# Altium integrated library NSC Interface.IntLib: 1288 symbols (part 34 of 45)
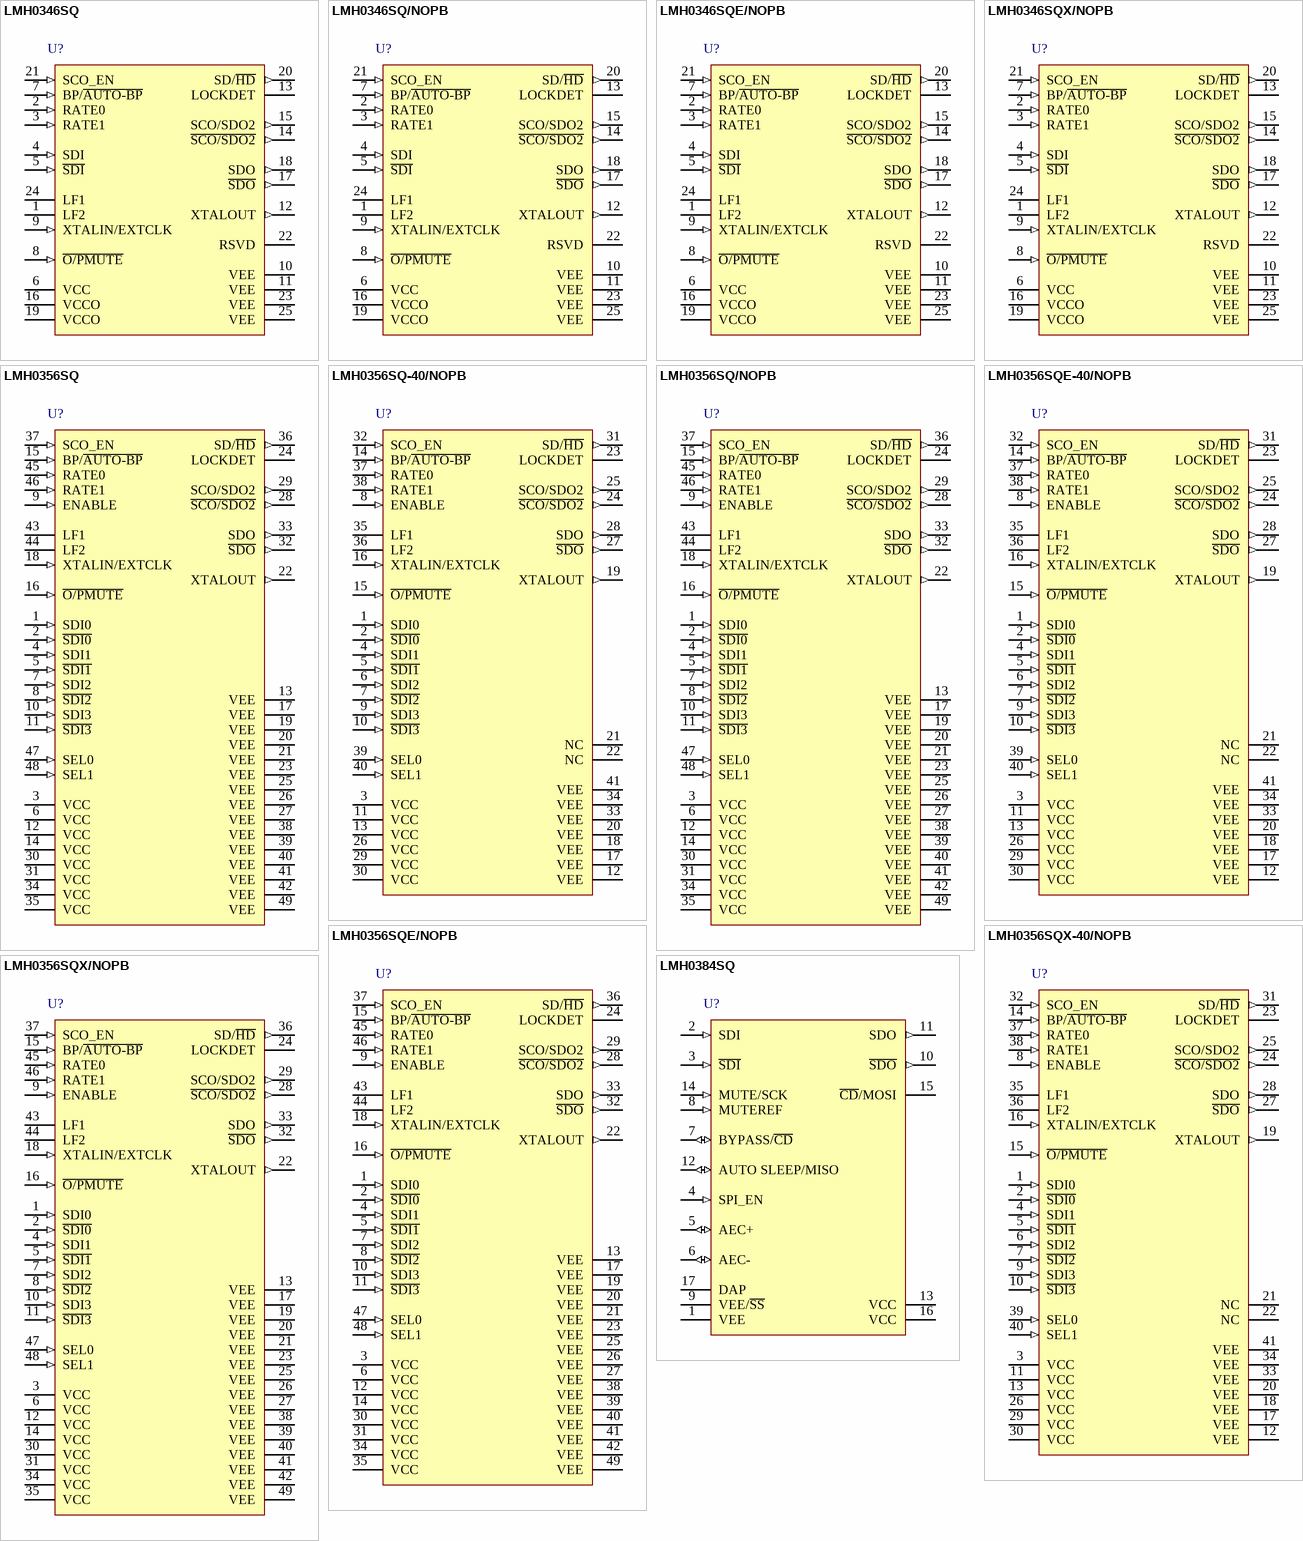
[diagram p145: symbols LMH0346SQ to LMH0384SQ]

## LMH0346SQ
designator U?
3 Gbps HD/SD SDI Reclocker with Dual Differential Outputs, 24-pin LLP; PartNumber: LMH0346SQ; Manufacturer: National Semiconductor; PackageTopMarking: NS*UZXYTT*L0346SQ; PowerWise: N; CompType: Interface IC; Published: 4-Dec-2008; DatasheetVersion: Nov-2009; PackageVersion: revA, Oct-2003; PackageReference: SQA24B; Publisher: Altium Limited; PackageDescription: LLP, Plastic, Quad, 5 x 4 x 0.8mm Body, 24 Lead, 0.5mm Pitch, No Pullback; RoHS: Y; PinCount: 24; Code_JEDEC: MO-220-WGHD-1; ComponentLink1Description: LMH0346 Datasheet; ComponentLink1URL: http://www.national.com/ds/LM/LMH0346.pdf; ComponentLink2Description: LMH0346 Web Page; ComponentLink2URL: http://www.national.com/pf/LM/LMH0346.html; ComponentLink3Description: SQA24B Package Page; ComponentLink3URL: http://www.national.com/packaging/folders/sqa24b.html
footprint SQA24B (QFN, 24-Leads, Body 5x4mm, Pitch 0.5mm, NSC Recommended)
pins: 1 LF2, 2 RATE0 (in), 3 RATE1 (in), 4 SDI (in), 5 ~{SDI} (in), 6 VCC (power), 7 BP/~{AUTO-BP} (in), 8 ~{O/PMUTE} (in), 9 XTALIN/EXTCLK (in), 10 VEE (power), 11 VEE (power), 12 XTALOUT (out), 13 LOCKDET, 14 ~{SCO/SDO2} (out), 15 SCO/SDO2 (out), 16 VCCO (power), 17 ~{SDO} (out), 18 SDO (out), 19 VCCO (power), 20 SD/~{HD} (out), 21 SCO_EN (in), 22 RSVD, 23 VEE (power), 24 LF1, 25 VEE (power)

## LMH0346SQ/NOPB
designator U?
3 Gbps HD/SD SDI Reclocker with Dual Differential Outputs, 24-pin LLP, Pb-Free; PartNumber: LMH0346SQ/NOPB; Manufacturer: National Semiconductor; PackageTopMarking: NS*UZXYTT*L0346SQ; PowerWise: N; CompType: Interface IC; Published: 1-Mar-2010; DatasheetVersion: Nov-2009; PackageVersion: revA, Oct-2003; PackageReference: SQA24B; Publisher: Altium Limited; PackageDescription: LLP, Plastic, Quad, 5 x 4 x 0.8mm Body, 24 Lead, 0.5mm Pitch, No Pullback; Supplier 1: Digi-Key; Supplier Part Number 1: LMH0346SQ-ND; RoHS: Y; PinCount: 24; Code_JEDEC: MO-220-WGHD-1; ComponentLink1Description: LMH0346 Datasheet; ComponentLink1URL: http://www.national.com/ds/LM/LMH0346.pdf; ComponentLink2Description: LMH0346 Web Page; ComponentLink2URL: http://www.national.com/pf/LM/LMH0346.html; ComponentLink3Description: SQA24B Package Page; ComponentLink3URL: http://www.national.com/packaging/folders/sqa24b.html
footprint SQA24B (QFN, 24-Leads, Body 5x4mm, Pitch 0.5mm, NSC Recommended)
pins: 1 LF2, 2 RATE0 (in), 3 RATE1 (in), 4 SDI (in), 5 ~{SDI} (in), 6 VCC (power), 7 BP/~{AUTO-BP} (in), 8 ~{O/PMUTE} (in), 9 XTALIN/EXTCLK (in), 10 VEE (power), 11 VEE (power), 12 XTALOUT (out), 13 LOCKDET, 14 ~{SCO/SDO2} (out), 15 SCO/SDO2 (out), 16 VCCO (power), 17 ~{SDO} (out), 18 SDO (out), 19 VCCO (power), 20 SD/~{HD} (out), 21 SCO_EN (in), 22 RSVD, 23 VEE (power), 24 LF1, 25 VEE (power)

## LMH0346SQE/NOPB
designator U?
3 Gbps HD/SD SDI Reclocker with Dual Differential Outputs, 24-pin LLP, Pb-Free; PartNumber: LMH0346SQE/NOPB; Manufacturer: National Semiconductor; PackageTopMarking: NS*UZXYTT*L0346SQ; PowerWise: N; CompType: Interface IC; Published: 1-Mar-2010; DatasheetVersion: Nov-2009; PackageVersion: revA, Oct-2003; PackageReference: SQA24B; Publisher: Altium Limited; PackageDescription: LLP, Plastic, Quad, 5 x 4 x 0.8mm Body, 24 Lead, 0.5mm Pitch, No Pullback; Supplier 1: Digi-Key; Supplier Part Number 1: LMH0346SQE/NOPBTR-ND; Supplier 2: Digi-Key; Supplier Part Number 2: LMH0346SQE/NOPBCT-ND; Supplier 3: Digi-Key; Supplier Part Number 3: LMH0346SQE/NOPBDKR-ND; Supplier 4: Farnell; Supplier Part Number 4: 1685412; RoHS: Y; PinCount: 24; Code_JEDEC: MO-220-WGHD-1; ComponentLink1Description: LMH0346 Datasheet; ComponentLink1URL: http://www.national.com/ds/LM/LMH0346.pdf; ComponentLink2Description: LMH0346 Web Page; ComponentLink2URL: http://www.national.com/pf/LM/LMH0346.html; ComponentLink3Description: SQA24B Package Page; ComponentLink3URL: http://www.national.com/packaging/folders/sqa24b.html
footprint SQA24B (QFN, 24-Leads, Body 5x4mm, Pitch 0.5mm, NSC Recommended)
pins: 1 LF2, 2 RATE0 (in), 3 RATE1 (in), 4 SDI (in), 5 ~{SDI} (in), 6 VCC (power), 7 BP/~{AUTO-BP} (in), 8 ~{O/PMUTE} (in), 9 XTALIN/EXTCLK (in), 10 VEE (power), 11 VEE (power), 12 XTALOUT (out), 13 LOCKDET, 14 ~{SCO/SDO2} (out), 15 SCO/SDO2 (out), 16 VCCO (power), 17 ~{SDO} (out), 18 SDO (out), 19 VCCO (power), 20 SD/~{HD} (out), 21 SCO_EN (in), 22 RSVD, 23 VEE (power), 24 LF1, 25 VEE (power)

## LMH0346SQX/NOPB
designator U?
3 Gbps HD/SD SDI Reclocker with Dual Differential Outputs, 24-pin LLP, Pb-Free; PartNumber: LMH0346SQX/NOPB; Manufacturer: National Semiconductor; PackageTopMarking: NS*UZXYTT*L0346SQ; PowerWise: N; CompType: Interface IC; Published: 1-Mar-2010; DatasheetVersion: Nov-2009; PackageVersion: revA, Oct-2003; PackageReference: SQA24B; Publisher: Altium Limited; PackageDescription: LLP, Plastic, Quad, 5 x 4 x 0.8mm Body, 24 Lead, 0.5mm Pitch, No Pullback; Supplier 1: Digi-Key; Supplier Part Number 1: LMH0346SQX-ND; RoHS: Y; PinCount: 24; Code_JEDEC: MO-220-WGHD-1; ComponentLink1Description: LMH0346 Datasheet; ComponentLink1URL: http://www.national.com/ds/LM/LMH0346.pdf; ComponentLink2Description: LMH0346 Web Page; ComponentLink2URL: http://www.national.com/pf/LM/LMH0346.html; ComponentLink3Description: SQA24B Package Page; ComponentLink3URL: http://www.national.com/packaging/folders/sqa24b.html
footprint SQA24B (QFN, 24-Leads, Body 5x4mm, Pitch 0.5mm, NSC Recommended)
pins: 1 LF2, 2 RATE0 (in), 3 RATE1 (in), 4 SDI (in), 5 ~{SDI} (in), 6 VCC (power), 7 BP/~{AUTO-BP} (in), 8 ~{O/PMUTE} (in), 9 XTALIN/EXTCLK (in), 10 VEE (power), 11 VEE (power), 12 XTALOUT (out), 13 LOCKDET, 14 ~{SCO/SDO2} (out), 15 SCO/SDO2 (out), 16 VCCO (power), 17 ~{SDO} (out), 18 SDO (out), 19 VCCO (power), 20 SD/~{HD} (out), 21 SCO_EN (in), 22 RSVD, 23 VEE (power), 24 LF1, 25 VEE (power)

## LMH0356SQ
designator U?
3 Gbps HD/SD SDI Reclocker with 4:1 Input Mux and FR4 EQs, 48-pin LLP; PartNumber: LMH0356SQ; Manufacturer: National Semiconductor; PackageTopMarking: NS*UZXYTT*L0356; PowerWise: N; CompType: Interface IC; Published: 4-Dec-2008; LatestRevisionDate: 1-Mar-2010; LatestRevisionNote: Updated to datasheet version Nov-2009; DatasheetVersion: Nov-2009; PackageVersion: revB, May-2009; PackageReference: SQA48A; Publisher: Altium Limited; PackageDescription: LLP, Plastic, Quad, 7 x 7 x 0.8mm Body, 48 Lead, 0.5mm Pitch, No Pullback; RoHS: Y; PinCount: 48; Code_JEDEC: MO-220-WKKD-2; ComponentLink1Description: LMH0356 Datasheet; ComponentLink1URL: http://www.national.com/ds/LM/LMH0356.pdf; ComponentLink2Description: LMH0356 Web Page; ComponentLink2URL: http://www.national.com/pf/LM/LMH0356.html; ComponentLink3Description: SQA48A Package Page; ComponentLink3URL: http://www.national.com/packaging/folders/sqa48a.html
footprint SQA48A (QFN, 48-Leads, Body 7x7mm, Pitch 0.5mm, NSC Recommended)
pins: 1 SDI0 (in), 2 ~{SDI0} (in), 3 VCC (power), 4 SDI1 (in), 5 ~{SDI1} (in), 6 VCC (power), 7 SDI2 (in), 8 ~{SDI2} (in), 9 ENABLE (in), 10 SDI3 (in), 11 ~{SDI3} (in), 12 VCC (power), 13 VEE (power), 14 VCC (power), 15 BP/~{AUTO-BP} (in), 16 ~{O/PMUTE} (in), 17 VEE (power), 18 XTALIN/EXTCLK (in), 19 VEE (power), 20 VEE (power), 21 VEE (power), 22 XTALOUT (out), 23 VEE (power), 24 LOCKDET, 25 VEE (power), 26 VEE (power), 27 VEE (power), 28 ~{SCO/SDO2} (out), 29 SCO/SDO2 (out), 30 VCC (power), 31 VCC (power), 32 ~{SDO} (out), 33 SDO (out), 34 VCC (power), 35 VCC (power), 36 SD/~{HD} (out), 37 SCO_EN (in), 38 VEE (power), 39 VEE (power), 40 VEE (power), 41 VEE (power), 42 VEE (power), 43 LF1, 44 LF2, 45 RATE0 (in), 46 RATE1 (in), 47 SEL0 (in), 48 SEL1 (in), 49 VEE (power)

## LMH0356SQ-40/NOPB
designator U?
3 Gbps HD/SD SDI Reclocker with 4:1 Input Mux and FR4 EQs, 40-pin LLP, Pb-Free; PartNumber: LMH0356SQ-40/NOPB; Manufacturer: National Semiconductor; PackageTopMarking: NS*UZXYTT*L0356; PowerWise: N; CompType: Interface IC; Published: 1-Mar-2010; DatasheetVersion: Nov-2009; PackageVersion: revB, Jul-2004; PackageReference: SQF40A; Publisher: Altium Limited; PackageDescription: LLP, Quad, 5 x 5 x 0.8mm Body, 40 Lead, 0.4mm Pitch, 3.6 x 3.6mm Exposed Pad; Supplier 1: Digi-Key; Supplier Part Number 1: LMH0356SQ-40-ND; RoHS: Y; PinCount: 40; ComponentLink1Description: LMH0356 Datasheet; ComponentLink1URL: http://www.national.com/ds/LM/LMH0356.pdf; ComponentLink2Description: LMH0356 Web Page; ComponentLink2URL: http://www.national.com/pf/LM/LMH0356.html; ComponentLink3Description: SQF40A Package Page; ComponentLink3URL: http://www.national.com/packaging/folders/sqf40a.html
footprint SQF40A (QFN, 40-Leads, Body 5x5 mm, Pitch 0.4mm, NSC Recommended)
pins: 1 SDI0 (in), 2 ~{SDI0} (in), 3 VCC (power), 4 SDI1 (in), 5 ~{SDI1} (in), 6 SDI2 (in), 7 ~{SDI2} (in), 8 ENABLE (in), 9 SDI3 (in), 10 ~{SDI3} (in), 11 VCC (power), 12 VEE (power), 13 VCC (power), 14 BP/~{AUTO-BP} (in), 15 ~{O/PMUTE} (in), 16 XTALIN/EXTCLK (in), 17 VEE (power), 18 VEE (power), 19 XTALOUT (out), 20 VEE (power), 21 NC (power), 22 NC (power), 23 LOCKDET, 24 ~{SCO/SDO2} (out), 25 SCO/SDO2 (out), 26 VCC (power), 27 ~{SDO} (out), 28 SDO (out), 29 VCC (power), 30 VCC (power), 31 SD/~{HD} (out), 32 SCO_EN (in), 33 VEE (power), 34 VEE (power), 35 LF1, 36 LF2, 37 RATE0 (in), 38 RATE1 (in), 39 SEL0 (in), 40 SEL1 (in), 41 VEE (power)

## LMH0356SQ/NOPB
designator U?
3 Gbps HD/SD SDI Reclocker with 4:1 Input Mux and FR4 EQs, 48-pin LLP, Pb-Free; PartNumber: LMH0356SQ/NOPB; Manufacturer: National Semiconductor; PackageTopMarking: NS*UZXYTTE#*L0356; PowerWise: N; CompType: Interface IC; Published: 1-Mar-2010; LatestRevisionDate: 1-Mar-2010; LatestRevisionNote: Updated to datasheet version Nov-2009; DatasheetVersion: Nov-2009; PackageVersion: revB, May-2009; PackageReference: SQA48A; Publisher: Altium Limited; PackageDescription: LLP, Plastic, Quad, 7 x 7 x 0.8mm Body, 48 Lead, 0.5mm Pitch, No Pullback; Supplier 1: Digi-Key; Supplier Part Number 1: LMH0356SQ-ND; RoHS: Y; PinCount: 48; Code_JEDEC: MO-220-WKKD-2; ComponentLink1Description: LMH0356 Datasheet; ComponentLink1URL: http://www.national.com/ds/LM/LMH0356.pdf; ComponentLink2Description: LMH0356 Web Page; ComponentLink2URL: http://www.national.com/pf/LM/LMH0356.html; ComponentLink3Description: SQA48A Package Page; ComponentLink3URL: http://www.national.com/packaging/folders/sqa48a.html
footprint SQA48A (QFN, 48-Leads, Body 7x7mm, Pitch 0.5mm, NSC Recommended)
pins: 1 SDI0 (in), 2 ~{SDI0} (in), 3 VCC (power), 4 SDI1 (in), 5 ~{SDI1} (in), 6 VCC (power), 7 SDI2 (in), 8 ~{SDI2} (in), 9 ENABLE (in), 10 SDI3 (in), 11 ~{SDI3} (in), 12 VCC (power), 13 VEE (power), 14 VCC (power), 15 BP/~{AUTO-BP} (in), 16 ~{O/PMUTE} (in), 17 VEE (power), 18 XTALIN/EXTCLK (in), 19 VEE (power), 20 VEE (power), 21 VEE (power), 22 XTALOUT (out), 23 VEE (power), 24 LOCKDET, 25 VEE (power), 26 VEE (power), 27 VEE (power), 28 ~{SCO/SDO2} (out), 29 SCO/SDO2 (out), 30 VCC (power), 31 VCC (power), 32 ~{SDO} (out), 33 SDO (out), 34 VCC (power), 35 VCC (power), 36 SD/~{HD} (out), 37 SCO_EN (in), 38 VEE (power), 39 VEE (power), 40 VEE (power), 41 VEE (power), 42 VEE (power), 43 LF1, 44 LF2, 45 RATE0 (in), 46 RATE1 (in), 47 SEL0 (in), 48 SEL1 (in), 49 VEE (power)

## LMH0356SQE-40/NOPB
designator U?
3 Gbps HD/SD SDI Reclocker with 4:1 Input Mux and FR4 EQs, 40-pin LLP, Pb-Free; PartNumber: LMH0356SQE-40/NOPB; Manufacturer: National Semiconductor; PackageTopMarking: NS*UZXYTT*L0356; PowerWise: N; CompType: Interface IC; Published: 1-Mar-2010; DatasheetVersion: Nov-2009; PackageVersion: revB, Jul-2004; PackageReference: SQF40A; Publisher: Altium Limited; PackageDescription: LLP, Quad, 5 x 5 x 0.8mm Body, 40 Lead, 0.4mm Pitch, 3.6 x 3.6mm Exposed Pad; Supplier 1: Digi-Key; Supplier Part Number 1: LMH0356SQE-40TR-ND; Supplier 2: Digi-Key; Supplier Part Number 2: LMH0356SQE-40CT-ND; Supplier 3: Digi-Key; Supplier Part Number 3: LMH0356SQE-40DKR-ND; RoHS: Y; PinCount: 40; ComponentLink1Description: LMH0356 Datasheet; ComponentLink1URL: http://www.national.com/ds/LM/LMH0356.pdf; ComponentLink2Description: LMH0356 Web Page; ComponentLink2URL: http://www.national.com/pf/LM/LMH0356.html; ComponentLink3Description: SQF40A Package Page; ComponentLink3URL: http://www.national.com/packaging/folders/sqf40a.html
footprint SQF40A (QFN, 40-Leads, Body 5x5 mm, Pitch 0.4mm, NSC Recommended)
pins: 1 SDI0 (in), 2 ~{SDI0} (in), 3 VCC (power), 4 SDI1 (in), 5 ~{SDI1} (in), 6 SDI2 (in), 7 ~{SDI2} (in), 8 ENABLE (in), 9 SDI3 (in), 10 ~{SDI3} (in), 11 VCC (power), 12 VEE (power), 13 VCC (power), 14 BP/~{AUTO-BP} (in), 15 ~{O/PMUTE} (in), 16 XTALIN/EXTCLK (in), 17 VEE (power), 18 VEE (power), 19 XTALOUT (out), 20 VEE (power), 21 NC (power), 22 NC (power), 23 LOCKDET, 24 ~{SCO/SDO2} (out), 25 SCO/SDO2 (out), 26 VCC (power), 27 ~{SDO} (out), 28 SDO (out), 29 VCC (power), 30 VCC (power), 31 SD/~{HD} (out), 32 SCO_EN (in), 33 VEE (power), 34 VEE (power), 35 LF1, 36 LF2, 37 RATE0 (in), 38 RATE1 (in), 39 SEL0 (in), 40 SEL1 (in), 41 VEE (power)

## LMH0356SQE/NOPB
designator U?
3 Gbps HD/SD SDI Reclocker with 4:1 Input Mux and FR4 EQs, 48-pin LLP, Pb-Free; PartNumber: LMH0356SQE/NOPB; Manufacturer: National Semiconductor; PackageTopMarking: NS*UZXYTTE#*L0356; PowerWise: N; CompType: Interface IC; Published: 1-Mar-2010; DatasheetVersion: Nov-2009; PackageVersion: revB, May-2009; PackageReference: SQA48A; Publisher: Altium Limited; PackageDescription: LLP, Plastic, Quad, 7 x 7 x 0.8mm Body, 48 Lead, 0.5mm Pitch, No Pullback; Supplier 1: Digi-Key; Supplier Part Number 1: LMH0356SQETR-ND; Supplier 2: Digi-Key; Supplier Part Number 2: LMH0356SQECT-ND; Supplier 3: Digi-Key; Supplier Part Number 3: LMH0356SQEDKR-ND; RoHS: Y; PinCount: 48; Code_JEDEC: MO-220-WKKD-2; ComponentLink1Description: LMH0356 Datasheet; ComponentLink1URL: http://www.national.com/ds/LM/LMH0356.pdf; ComponentLink2Description: LMH0356 Web Page; ComponentLink2URL: http://www.national.com/pf/LM/LMH0356.html; ComponentLink3Description: SQA48A Package Page; ComponentLink3URL: http://www.national.com/packaging/folders/sqa48a.html
footprint SQA48A (QFN, 48-Leads, Body 7x7mm, Pitch 0.5mm, NSC Recommended)
pins: 1 SDI0 (in), 2 ~{SDI0} (in), 3 VCC (power), 4 SDI1 (in), 5 ~{SDI1} (in), 6 VCC (power), 7 SDI2 (in), 8 ~{SDI2} (in), 9 ENABLE (in), 10 SDI3 (in), 11 ~{SDI3} (in), 12 VCC (power), 13 VEE (power), 14 VCC (power), 15 BP/~{AUTO-BP} (in), 16 ~{O/PMUTE} (in), 17 VEE (power), 18 XTALIN/EXTCLK (in), 19 VEE (power), 20 VEE (power), 21 VEE (power), 22 XTALOUT (out), 23 VEE (power), 24 LOCKDET, 25 VEE (power), 26 VEE (power), 27 VEE (power), 28 ~{SCO/SDO2} (out), 29 SCO/SDO2 (out), 30 VCC (power), 31 VCC (power), 32 ~{SDO} (out), 33 SDO (out), 34 VCC (power), 35 VCC (power), 36 SD/~{HD} (out), 37 SCO_EN (in), 38 VEE (power), 39 VEE (power), 40 VEE (power), 41 VEE (power), 42 VEE (power), 43 LF1, 44 LF2, 45 RATE0 (in), 46 RATE1 (in), 47 SEL0 (in), 48 SEL1 (in), 49 VEE (power)

## LMH0356SQX-40/NOPB
designator U?
3 Gbps HD/SD SDI Reclocker with 4:1 Input Mux and FR4 EQs, 40-pin LLP, Pb-Free; PartNumber: LMH0356SQX-40/NOPB; Manufacturer: National Semiconductor; PackageTopMarking: NS*UZXYTT*L0356; PowerWise: N; CompType: Interface IC; Published: 1-Mar-2010; DatasheetVersion: Nov-2009; PackageVersion: revB, Jul-2004; PackageReference: SQF40A; Publisher: Altium Limited; PackageDescription: LLP, Quad, 5 x 5 x 0.8mm Body, 40 Lead, 0.4mm Pitch, 3.6 x 3.6mm Exposed Pad; Supplier 1: Digi-Key; Supplier Part Number 1: LMH0356SQX-40-ND; RoHS: Y; PinCount: 40; ComponentLink1Description: LMH0356 Datasheet; ComponentLink1URL: http://www.national.com/ds/LM/LMH0356.pdf; ComponentLink2Description: LMH0356 Web Page; ComponentLink2URL: http://www.national.com/pf/LM/LMH0356.html; ComponentLink3Description: SQF40A Package Page; ComponentLink3URL: http://www.national.com/packaging/folders/sqf40a.html
footprint SQF40A (QFN, 40-Leads, Body 5x5 mm, Pitch 0.4mm, NSC Recommended)
pins: 1 SDI0 (in), 2 ~{SDI0} (in), 3 VCC (power), 4 SDI1 (in), 5 ~{SDI1} (in), 6 SDI2 (in), 7 ~{SDI2} (in), 8 ENABLE (in), 9 SDI3 (in), 10 ~{SDI3} (in), 11 VCC (power), 12 VEE (power), 13 VCC (power), 14 BP/~{AUTO-BP} (in), 15 ~{O/PMUTE} (in), 16 XTALIN/EXTCLK (in), 17 VEE (power), 18 VEE (power), 19 XTALOUT (out), 20 VEE (power), 21 NC (power), 22 NC (power), 23 LOCKDET, 24 ~{SCO/SDO2} (out), 25 SCO/SDO2 (out), 26 VCC (power), 27 ~{SDO} (out), 28 SDO (out), 29 VCC (power), 30 VCC (power), 31 SD/~{HD} (out), 32 SCO_EN (in), 33 VEE (power), 34 VEE (power), 35 LF1, 36 LF2, 37 RATE0 (in), 38 RATE1 (in), 39 SEL0 (in), 40 SEL1 (in), 41 VEE (power)

## LMH0356SQX/NOPB
designator U?
3 Gbps HD/SD SDI Reclocker with 4:1 Input Mux and FR4 EQs, 48-pin LLP, Pb-Free; PartNumber: LMH0356SQX/NOPB; Manufacturer: National Semiconductor; PackageTopMarking: NS*UZXYTTE#*L0356; PowerWise: N; CompType: Interface IC; Published: 1-Mar-2010; DatasheetVersion: Nov-2009; PackageVersion: revB, May-2009; PackageReference: SQA48A; Publisher: Altium Limited; PackageDescription: LLP, Plastic, Quad, 7 x 7 x 0.8mm Body, 48 Lead, 0.5mm Pitch, No Pullback; Supplier 1: Digi-Key; Supplier Part Number 1: LMH0356SQX-ND; RoHS: Y; PinCount: 48; Code_JEDEC: MO-220-WKKD-2; ComponentLink1Description: LMH0356 Datasheet; ComponentLink1URL: http://www.national.com/ds/LM/LMH0356.pdf; ComponentLink2Description: LMH0356 Web Page; ComponentLink2URL: http://www.national.com/pf/LM/LMH0356.html; ComponentLink3Description: SQA48A Package Page; ComponentLink3URL: http://www.national.com/packaging/folders/sqa48a.html
footprint SQA48A (QFN, 48-Leads, Body 7x7mm, Pitch 0.5mm, NSC Recommended)
pins: 1 SDI0 (in), 2 ~{SDI0} (in), 3 VCC (power), 4 SDI1 (in), 5 ~{SDI1} (in), 6 VCC (power), 7 SDI2 (in), 8 ~{SDI2} (in), 9 ENABLE (in), 10 SDI3 (in), 11 ~{SDI3} (in), 12 VCC (power), 13 VEE (power), 14 VCC (power), 15 BP/~{AUTO-BP} (in), 16 ~{O/PMUTE} (in), 17 VEE (power), 18 XTALIN/EXTCLK (in), 19 VEE (power), 20 VEE (power), 21 VEE (power), 22 XTALOUT (out), 23 VEE (power), 24 LOCKDET, 25 VEE (power), 26 VEE (power), 27 VEE (power), 28 ~{SCO/SDO2} (out), 29 SCO/SDO2 (out), 30 VCC (power), 31 VCC (power), 32 ~{SDO} (out), 33 SDO (out), 34 VCC (power), 35 VCC (power), 36 SD/~{HD} (out), 37 SCO_EN (in), 38 VEE (power), 39 VEE (power), 40 VEE (power), 41 VEE (power), 42 VEE (power), 43 LF1, 44 LF2, 45 RATE0 (in), 46 RATE1 (in), 47 SEL0 (in), 48 SEL1 (in), 49 VEE (power)

## LMH0384SQ
designator U?
3 Gbps HD/SD SDI Extended Reach and Configurable Adaptive Cable Equalizer, 16-pin LLP; PartNumber: LMH0384SQ; Manufacturer: National Semiconductor; PackageTopMarking: NS*UZXYTT*L0384; PowerWise: Y; CompType: Interface IC; Published: 9-Oct-2009; DatasheetVersion: Jul-2009; PackageVersion: revA, Dec-2005; PackageReference: SQB16A; Publisher: Altium Limited; PackageDescription: LLP, Plastic, Quad, 4 x 4 x 0.8mm, 16 Lead, 0.65mm Pitch, No Pullback; RoHS: Y; PinCount: 16; ComponentLink1Description: LMH0384 Datasheet; ComponentLink1URL: http://www.national.com/ds/LM/LMH0384.pdf; ComponentLink2Description: LMH0384 Web Page; ComponentLink2URL: http://www.national.com/pf/LM/LMH0384.html; ComponentLink3Description: SQB16A Package Page; ComponentLink3URL: http://www.national.com/packaging/folders/sqb16a.html
footprint SQB16A (QFN, 16-Leads, Body 4x4mm, Pitch 0.65mm, NSC Recommended)
pins: 1 VEE (power), 2 SDI (in), 3 ~{SDI} (in), 4 SPI_EN (in), 5 AEC+ (io), 6 AEC- (io), 7 BYPASS/~{CD} (io), 8 MUTEREF (in), 9 VEE/~{SS}, 10 ~{SDO} (out), 11 SDO (out), 12 AUTO SLEEP/MISO (io), 13 VCC (power), 14 MUTE/SCK (in), 15 ~{CD}/MOSI, 16 VCC (power), 17 DAP (power)

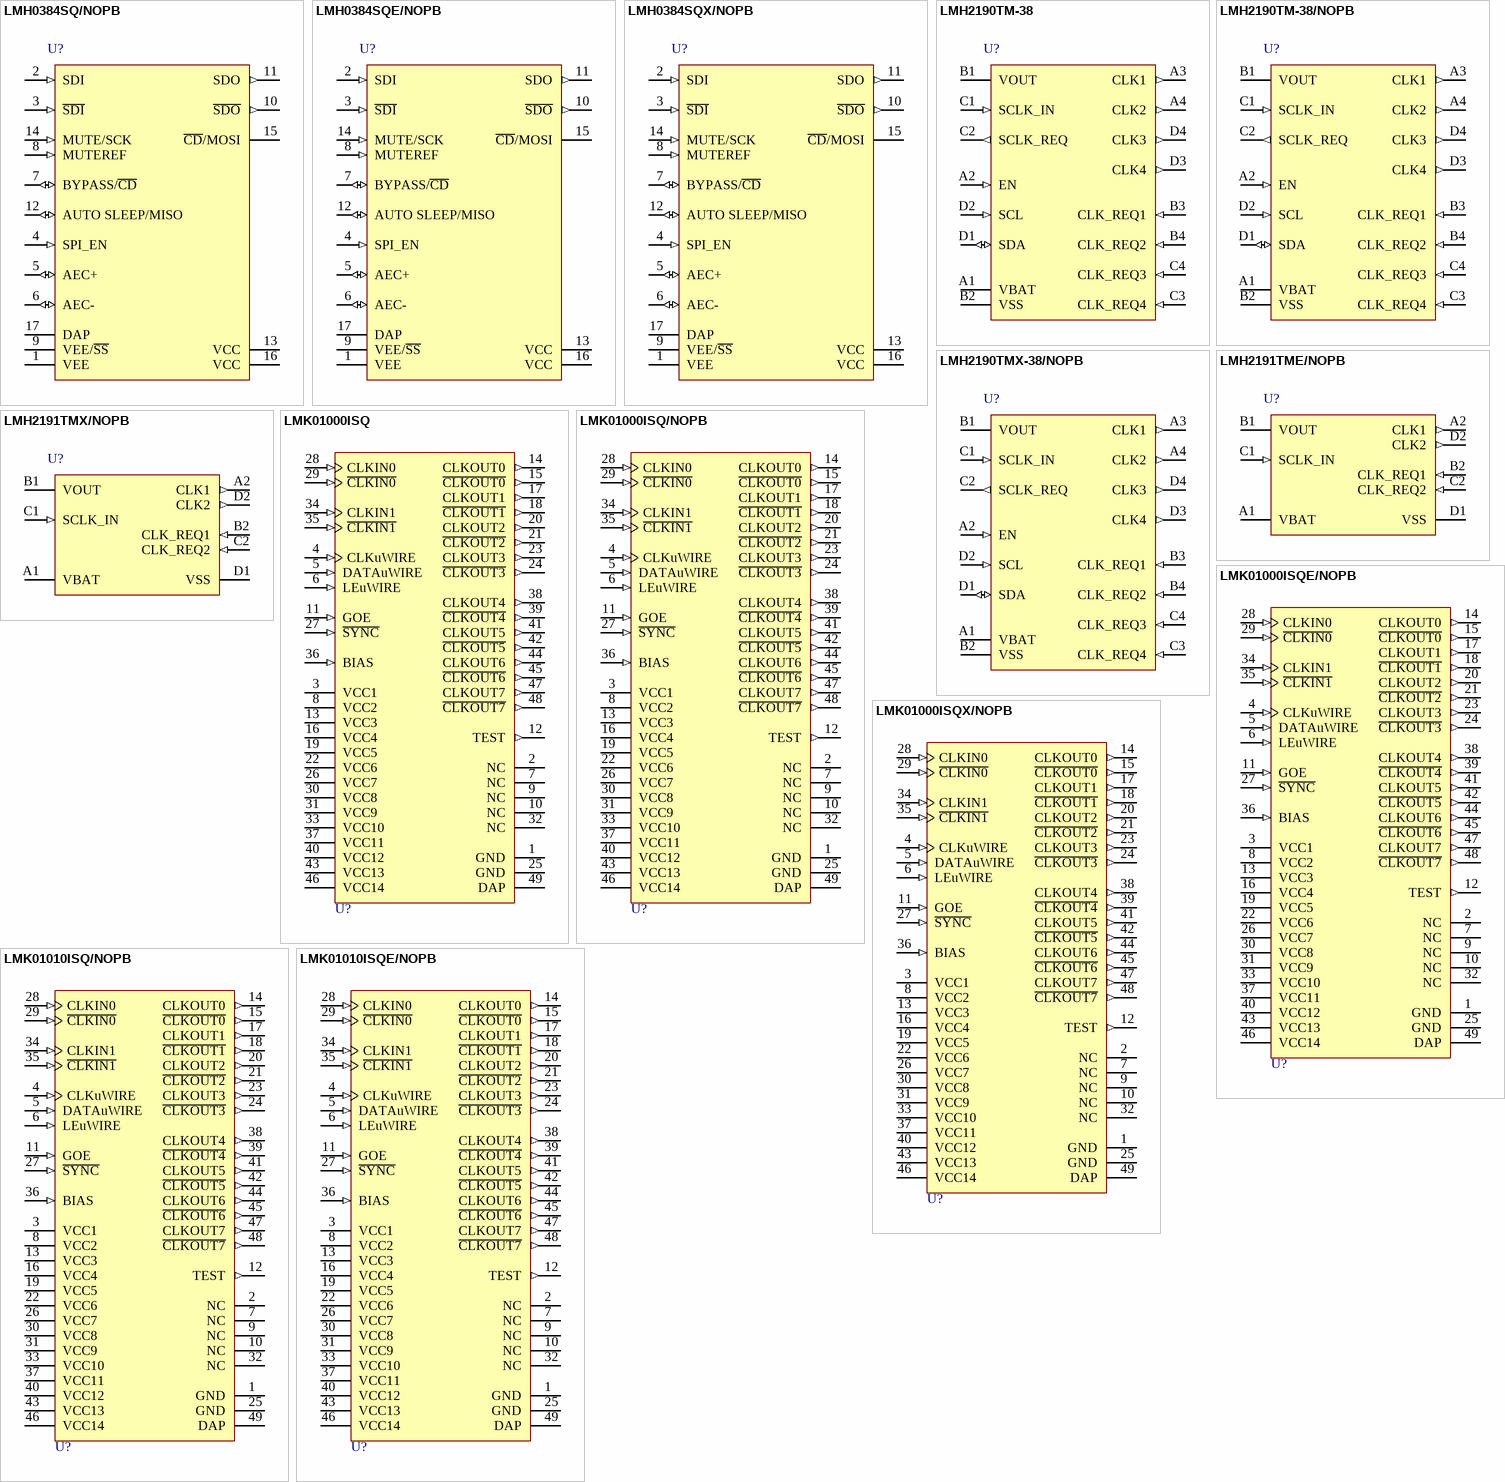
[diagram p84: symbols LMH0384SQ/NOPB to LMK01010ISQE/NOPB]

## LMH0384SQ/NOPB
designator U?
3 Gbps HD/SD SDI Extended Reach and Configurable Adaptive Cable Equalizer, 16-pin LLP, Pb-Free; PartNumber: LMH0384SQ/NOPB; Manufacturer: National Semiconductor; PackageTopMarking: NS*UZXYTT*L0384; PowerWise: Y; CompType: Interface IC; Published: 1-Mar-2010; DatasheetVersion: Jul-2009; PackageVersion: revA, Dec-2005; PackageReference: SQB16A; Publisher: Altium Limited; PackageDescription: LLP, Plastic, Quad, 4 x 4 x 0.8mm, 16 Lead, 0.65mm Pitch, No Pullback; Supplier 1: Digi-Key; Supplier Part Number 1: LMH0384SQ-ND; RoHS: Y; PinCount: 16; ComponentLink1Description: LMH0384 Datasheet; ComponentLink1URL: http://www.national.com/ds/LM/LMH0384.pdf; ComponentLink2Description: LMH0384 Web Page; ComponentLink2URL: http://www.national.com/pf/LM/LMH0384.html; ComponentLink3Description: SQB16A Package Page; ComponentLink3URL: http://www.national.com/packaging/folders/sqb16a.html
footprint SQB16A (QFN, 16-Leads, Body 4x4mm, Pitch 0.65mm, NSC Recommended)
pins: 1 VEE (power), 2 SDI (in), 3 ~{SDI} (in), 4 SPI_EN (in), 5 AEC+ (io), 6 AEC- (io), 7 BYPASS/~{CD} (io), 8 MUTEREF (in), 9 VEE/~{SS}, 10 ~{SDO} (out), 11 SDO (out), 12 AUTO SLEEP/MISO (io), 13 VCC (power), 14 MUTE/SCK (in), 15 ~{CD}/MOSI, 16 VCC (power), 17 DAP (power)

## LMH0384SQE/NOPB
designator U?
3 Gbps HD/SD SDI Extended Reach and Configurable Adaptive Cable Equalizer, 16-pin LLP, Pb-Free; PartNumber: LMH0384SQE/NOPB; Manufacturer: National Semiconductor; PackageTopMarking: NS*UZXYTT*L0384; PowerWise: Y; CompType: Interface IC; Published: 1-Mar-2010; DatasheetVersion: Jul-2009; PackageVersion: revA, Dec-2005; PackageReference: SQB16A; Publisher: Altium Limited; PackageDescription: LLP, Plastic, Quad, 4 x 4 x 0.8mm, 16 Lead, 0.65mm Pitch, No Pullback; Supplier 1: Digi-Key; Supplier Part Number 1: LMH0384SQETR-ND; Supplier 2: Digi-Key; Supplier Part Number 2: LMH0384SQECT-ND; Supplier 3: Digi-Key; Supplier Part Number 3: LMH0384SQEDKR-ND; RoHS: Y; PinCount: 16; ComponentLink1Description: LMH0384 Datasheet; ComponentLink1URL: http://www.national.com/ds/LM/LMH0384.pdf; ComponentLink2Description: LMH0384 Web Page; ComponentLink2URL: http://www.national.com/pf/LM/LMH0384.html; ComponentLink3Description: SQB16A Package Page; ComponentLink3URL: http://www.national.com/packaging/folders/sqb16a.html
footprint SQB16A (QFN, 16-Leads, Body 4x4mm, Pitch 0.65mm, NSC Recommended)
pins: 1 VEE (power), 2 SDI (in), 3 ~{SDI} (in), 4 SPI_EN (in), 5 AEC+ (io), 6 AEC- (io), 7 BYPASS/~{CD} (io), 8 MUTEREF (in), 9 VEE/~{SS}, 10 ~{SDO} (out), 11 SDO (out), 12 AUTO SLEEP/MISO (io), 13 VCC (power), 14 MUTE/SCK (in), 15 ~{CD}/MOSI, 16 VCC (power), 17 DAP (power)

## LMH0384SQX/NOPB
designator U?
3 Gbps HD/SD SDI Extended Reach and Configurable Adaptive Cable Equalizer, 16-pin LLP, Pb-Free; PartNumber: LMH0384SQX/NOPB; Manufacturer: National Semiconductor; PackageTopMarking: NS*UZXYTT*L0384; PowerWise: Y; CompType: Interface IC; Published: 1-Mar-2010; DatasheetVersion: Jul-2009; PackageVersion: revA, Dec-2005; PackageReference: SQB16A; Publisher: Altium Limited; PackageDescription: LLP, Plastic, Quad, 4 x 4 x 0.8mm, 16 Lead, 0.65mm Pitch, No Pullback; Supplier 1: Digi-Key; Supplier Part Number 1: LMH0384SQX-ND; RoHS: Y; PinCount: 16; ComponentLink1Description: LMH0384 Datasheet; ComponentLink1URL: http://www.national.com/ds/LM/LMH0384.pdf; ComponentLink2Description: LMH0384 Web Page; ComponentLink2URL: http://www.national.com/pf/LM/LMH0384.html; ComponentLink3Description: SQB16A Package Page; ComponentLink3URL: http://www.national.com/packaging/folders/sqb16a.html
footprint SQB16A (QFN, 16-Leads, Body 4x4mm, Pitch 0.65mm, NSC Recommended)
pins: 1 VEE (power), 2 SDI (in), 3 ~{SDI} (in), 4 SPI_EN (in), 5 AEC+ (io), 6 AEC- (io), 7 BYPASS/~{CD} (io), 8 MUTEREF (in), 9 VEE/~{SS}, 10 ~{SDO} (out), 11 SDO (out), 12 AUTO SLEEP/MISO (io), 13 VCC (power), 14 MUTE/SCK (in), 15 ~{CD}/MOSI, 16 VCC (power), 17 DAP (power)

## LMH2190TM-38
designator U?
Quad Channel 26 MHz Clock Tree Driver with I2C Interface, 16-pin Micro SMD; PartNumber: LMH2190TM-38; Manufacturer: National Semiconductor; PackageTopMarking: XYTT*I AA; PowerWise: N; CompType: Interface IC; Published: 9-Oct-2009; DatasheetVersion: Oct-2009; PackageVersion: revA, 2009; PackageReference: TMD16AAA; Publisher: Altium Limited; PackageDescription: Thin Micro SMD, 16 Bump, 0.4mm Pitch; RoHS: Y; PinCount: 16; ComponentLink1Description: LMH2190 Datasheet; ComponentLink1URL: http://www.national.com/ds/LM/LMH2190.pdf; ComponentLink2Description: LMH2190 Web Page; ComponentLink2URL: http://www.national.com/pf/LM/LMH2190.html
footprint TMD16AAA (Micro SMD, 16-Leads, Body 1.62x1.62mm, Pitch 0.4mm, NSC Recommended)
pins: A1 VBAT (power), A2 EN (in), A3 CLK1 (out), A4 CLK2 (out), B1 VOUT (power), B2 VSS (power), B3 CLK_REQ1 (in), B4 CLK_REQ2 (in), C1 SCLK_IN (in), C2 SCLK_REQ (out), C3 CLK_REQ4 (in), C4 CLK_REQ3 (in), D1 SDA (io), D2 SCL (in), D3 CLK4 (out), D4 CLK3 (out)

## LMH2190TM-38/NOPB
designator U?
Quad Channel 27 MHz Clock Tree Driver with I2C Interface, 16-pin Micro SMD, Pb-Free; PartNumber: LMH2190TM-38/NOPB; Manufacturer: National Semiconductor; PackageTopMarking: XYTT*I AA; PowerWise: N; CompType: Interface IC; Published: 1-Mar-2010; DatasheetVersion: Oct-2009; PackageVersion: revA, 2009; PackageReference: TMD16AAA; Publisher: Altium Limited; PackageDescription: Thin Micro SMD, 16 Bump, 0.4mm Pitch; Supplier 1: Digi-Key; Supplier Part Number 1: LMH2190TM-38TR-ND; Supplier 2: Digi-Key; Supplier Part Number 2: LMH2190TM-38CT-ND; Supplier 3: Digi-Key; Supplier Part Number 3: LMH2190TM-38DKR-ND; RoHS: Y; PinCount: 16; ComponentLink1Description: LMH2190 Datasheet; ComponentLink1URL: http://www.national.com/ds/LM/LMH2190.pdf; ComponentLink2Description: LMH2190 Web Page; ComponentLink2URL: http://www.national.com/pf/LM/LMH2190.html; ComponentLink3Description: TMD16AAA Package Page; ComponentLink3URL: http://www.national.com/packaging/folders/tmd16aaa.html
footprint TMD16AAA (Micro SMD, 16-Leads, Body 1.62x1.62mm, Pitch 0.4mm, NSC Recommended)
pins: A1 VBAT (power), A2 EN (in), A3 CLK1 (out), A4 CLK2 (out), B1 VOUT (power), B2 VSS (power), B3 CLK_REQ1 (in), B4 CLK_REQ2 (in), C1 SCLK_IN (in), C2 SCLK_REQ (out), C3 CLK_REQ4 (in), C4 CLK_REQ3 (in), D1 SDA (io), D2 SCL (in), D3 CLK4 (out), D4 CLK3 (out)

## LMH2190TMX-38/NOPB
designator U?
Quad Channel 27 MHz Clock Tree Driver with I2C Interface, 16-pin Micro SMD, Pb-Free; PartNumber: LMH2190TMX-38/NOPB; Manufacturer: National Semiconductor; PackageTopMarking: XYTT*I AA; PowerWise: N; CompType: Interface IC; Published: 1-Mar-2010; DatasheetVersion: Oct-2009; PackageVersion: revA, 2009; PackageReference: TMD16AAA; Publisher: Altium Limited; PackageDescription: Thin Micro SMD, 16 Bump, 0.4mm Pitch; Supplier 1: Digi-Key; Supplier Part Number 1: LMH2190TMX-38-ND; RoHS: Y; PinCount: 16; ComponentLink1Description: LMH2190 Datasheet; ComponentLink1URL: http://www.national.com/ds/LM/LMH2190.pdf; ComponentLink2Description: LMH2190 Web Page; ComponentLink2URL: http://www.national.com/pf/LM/LMH2190.html; ComponentLink3Description: TMD16AAA Package Page; ComponentLink3URL: http://www.national.com/packaging/folders/tmd16aaa.html
footprint TMD16AAA (Micro SMD, 16-Leads, Body 1.62x1.62mm, Pitch 0.4mm, NSC Recommended)
pins: A1 VBAT (power), A2 EN (in), A3 CLK1 (out), A4 CLK2 (out), B1 VOUT (power), B2 VSS (power), B3 CLK_REQ1 (in), B4 CLK_REQ2 (in), C1 SCLK_IN (in), C2 SCLK_REQ (out), C3 CLK_REQ4 (in), C4 CLK_REQ3 (in), D1 SDA (io), D2 SCL (in), D3 CLK4 (out), D4 CLK3 (out)

## LMH2191TME/NOPB
designator U?
Dual Channel 52 MHz Clock Tree Driver, 8 pin MICRO SMD; PartNumber: LMH2191TME/NOPB; Manufacturer: National Semiconductor; PackageTopMarking: XV*I 5; PowerWise: N; CompType: Interface IC; Published: 16-Nov-2010; DatasheetVersion: Jul-2010; PackageVersion: revA, 2010; PackageReference: TMP08LAA; Publisher: Altium Limited; PackageDescription: Thin Micro SMD, 8 Bump, 0.4mm Pitch; Supplier 1: Digi-Key; Supplier Part Number 1: LMH2191TME/NOPBTR-ND; Supplier 2: Digi-Key; Supplier Part Number 2: LMH2191TME/NOPBCT-ND; Supplier 3: Digi-Key; Supplier Part Number 3: LMH2191TME/NOPBDKR-ND; RoHS: Y; PinCount: 8; ComponentLink1Description: LMH2191 Datasheet; ComponentLink1URL: http://www.national.com/ds/LM/LMH2191.pdf; ComponentLink2Description: LMH2191 Web Page; ComponentLink2URL: http://www.national.com/pf/LM/LMH2191.html
footprint TMP08LAA (Micro SMD, 8-Leads, Body 1.62x1.07mm, Pitch 0.4mm, NSC Recommended)
pins: A1 VBAT (power), A2 CLK1 (out), B1 VOUT (power), B2 CLK_REQ1 (in), C1 SCLK_IN (in), C2 CLK_REQ2 (in), D1 VSS (power), D2 CLK2 (out)

## LMH2191TMX/NOPB
designator U?
Dual Channel 52 MHz Clock Tree Driver, 8 pin MICRO SMD; PartNumber: LMH2191TMX/NOPB; Manufacturer: National Semiconductor; PackageTopMarking: XV*I 5; PowerWise: N; CompType: Interface IC; Published: 16-Nov-2010; DatasheetVersion: Jul-2010; PackageVersion: revA, 2010; PackageReference: TMP08LAA; Publisher: Altium Limited; PackageDescription: Thin Micro SMD, 8 Bump, 0.4mm Pitch; Supplier 1: Digi-Key; Supplier Part Number 1: LMH2191TMX/NOPB-ND; RoHS: Y; PinCount: 8; ComponentLink1Description: LMH2191 Datasheet; ComponentLink1URL: http://www.national.com/ds/LM/LMH2191.pdf; ComponentLink2Description: LMH2191 Web Page; ComponentLink2URL: http://www.national.com/pf/LM/LMH2191.html
footprint TMP08LAA (Micro SMD, 8-Leads, Body 1.62x1.07mm, Pitch 0.4mm, NSC Recommended)
pins: A1 VBAT (power), A2 CLK1 (out), B1 VOUT (power), B2 CLK_REQ1 (in), C1 SCLK_IN (in), C2 CLK_REQ2 (in), D1 VSS (power), D2 CLK2 (out)

## LMK01000ISQ
designator U?
1.6 GHz High Performance Clock Buffer, Divider, and Distributor, 48-pin LLP; PartNumber: LMK01000ISQ; Manufacturer: National Semiconductor; PackageTopMarking: NS*UZXYTT*K01000 I; PowerWise: N; CompType: Interface IC; Published: 4-Dec-2008; DatasheetVersion: Jul-2009; PackageVersion: revB, May-2009; PackageReference: SQA48A; Publisher: Altium Limited; PackageDescription: LLP, Plastic, Quad, 7 x 7 x 0.8mm Body, 48 Lead, 0.5mm Pitch, No Pullback; RoHS: Y; PinCount: 48; Code_JEDEC: MO-220-WKKD-2; ComponentLink1Description: LMK01000 Datasheet; ComponentLink1URL: http://www.national.com/ds/LM/LMK01000.pdf; ComponentLink2Description: LMK01000 Web Page; ComponentLink2URL: http://www.national.com/pf/LM/LMK01000.html; ComponentLink3Description: SQA48A Package Page; ComponentLink3URL: http://www.national.com/packaging/folders/sqa48a.html
footprint SQA48A (QFN, 48-Leads, Body 7x7mm, Pitch 0.5mm, NSC Recommended)
pins: 1 GND (power), 2 NC, 3 VCC1 (power), 4 CLKuWIRE (in), 5 DATAuWIRE (in), 6 LEuWIRE (in), 7 NC, 8 VCC2 (power), 9 NC, 10 NC, 11 GOE (in), 12 TEST (out), 13 VCC3 (power), 14 CLKOUT0 (out), 15 ~{CLKOUT0} (out), 16 VCC4 (power), 17 CLKOUT1 (out), 18 ~{CLKOUT1} (out), 19 VCC5 (power), 20 CLKOUT2 (out), 21 ~{CLKOUT2} (out), 22 VCC6 (power), 23 CLKOUT3 (out), 24 ~{CLKOUT3} (out), 25 GND (power), 26 VCC7 (power), 27 ~{SYNC} (in), 28 CLKIN0 (in), 29 ~{CLKIN0} (in), 30 VCC8 (power), 31 VCC9 (power), 32 NC, 33 VCC10 (power), 34 CLKIN1 (in), 35 ~{CLKIN1} (in), 36 BIAS (in), 37 VCC11 (power), 38 CLKOUT4 (out), 39 ~{CLKOUT4} (out), 40 VCC12 (power), 41 CLKOUT5 (out), 42 ~{CLKOUT5} (out), 43 VCC13 (power), 44 CLKOUT6 (out), 45 ~{CLKOUT6} (out), 46 VCC14 (power), 47 CLKOUT7 (out), 48 ~{CLKOUT7} (out), 49 DAP (power)

## LMK01000ISQ/NOPB
designator U?
1.6 GHz High Performance Clock Buffer, Divider, and Distributor, 48-pin LLP, Pb-Free; PartNumber: LMK01000ISQ/NOPB; Manufacturer: National Semiconductor; PackageTopMarking: NS*UZXYTTE#*K01000 I; PowerWise: N; CompType: Interface IC; Published: 1-Mar-2010; DatasheetVersion: Jul-2009; PackageVersion: revB, May-2009; PackageReference: SQA48A; Publisher: Altium Limited; PackageDescription: LLP, Plastic, Quad, 7 x 7 x 0.8mm Body, 48 Lead, 0.5mm Pitch, No Pullback; Supplier 1: Digi-Key; Supplier Part Number 1: LMK01000ISQ-ND; RoHS: Y; PinCount: 48; Code_JEDEC: MO-220-WKKD-2; ComponentLink1Description: LMK01000 Datasheet; ComponentLink1URL: http://www.national.com/ds/LM/LMK01000.pdf; ComponentLink2Description: LMK01000 Web Page; ComponentLink2URL: http://www.national.com/pf/LM/LMK01000.html; ComponentLink3Description: SQA48A Package Page; ComponentLink3URL: http://www.national.com/packaging/folders/sqa48a.html
footprint SQA48A (QFN, 48-Leads, Body 7x7mm, Pitch 0.5mm, NSC Recommended)
pins: 1 GND (power), 2 NC, 3 VCC1 (power), 4 CLKuWIRE (in), 5 DATAuWIRE (in), 6 LEuWIRE (in), 7 NC, 8 VCC2 (power), 9 NC, 10 NC, 11 GOE (in), 12 TEST (out), 13 VCC3 (power), 14 CLKOUT0 (out), 15 ~{CLKOUT0} (out), 16 VCC4 (power), 17 CLKOUT1 (out), 18 ~{CLKOUT1} (out), 19 VCC5 (power), 20 CLKOUT2 (out), 21 ~{CLKOUT2} (out), 22 VCC6 (power), 23 CLKOUT3 (out), 24 ~{CLKOUT3} (out), 25 GND (power), 26 VCC7 (power), 27 ~{SYNC} (in), 28 CLKIN0 (in), 29 ~{CLKIN0} (in), 30 VCC8 (power), 31 VCC9 (power), 32 NC, 33 VCC10 (power), 34 CLKIN1 (in), 35 ~{CLKIN1} (in), 36 BIAS (in), 37 VCC11 (power), 38 CLKOUT4 (out), 39 ~{CLKOUT4} (out), 40 VCC12 (power), 41 CLKOUT5 (out), 42 ~{CLKOUT5} (out), 43 VCC13 (power), 44 CLKOUT6 (out), 45 ~{CLKOUT6} (out), 46 VCC14 (power), 47 CLKOUT7 (out), 48 ~{CLKOUT7} (out), 49 DAP (power)

## LMK01000ISQE/NOPB
designator U?
1.6 GHz High Performance Clock Buffer, Divider, and Distributor, 48-pin LLP, Pb-Free; PartNumber: LMK01000ISQE/NOPB; Manufacturer: National Semiconductor; PackageTopMarking: NS*UZXYTTE#*K01000 I; PowerWise: N; CompType: Interface IC; Published: 1-Mar-2010; DatasheetVersion: Jul-2009; PackageVersion: revB, May-2009; PackageReference: SQA48A; Publisher: Altium Limited; PackageDescription: LLP, Plastic, Quad, 7 x 7 x 0.8mm Body, 48 Lead, 0.5mm Pitch, No Pullback; Supplier 1: Digi-Key; Supplier Part Number 1: LMK01000ISQETR-ND; Supplier 2: Digi-Key; Supplier Part Number 2: LMK01000ISQECT-ND; Supplier 3: Digi-Key; Supplier Part Number 3: LMK01000ISQEDKR-ND; Supplier 4: Farnell; Supplier Part Number 4: 1654233; RoHS: Y; PinCount: 48; Code_JEDEC: MO-220-WKKD-2; ComponentLink1Description: LMK01000 Datasheet; ComponentLink1URL: http://www.national.com/ds/LM/LMK01000.pdf; ComponentLink2Description: LMK01000 Web Page; ComponentLink2URL: http://www.national.com/pf/LM/LMK01000.html; ComponentLink3Description: SQA48A Package Page; ComponentLink3URL: http://www.national.com/packaging/folders/sqa48a.html
footprint SQA48A (QFN, 48-Leads, Body 7x7mm, Pitch 0.5mm, NSC Recommended)
pins: 1 GND (power), 2 NC, 3 VCC1 (power), 4 CLKuWIRE (in), 5 DATAuWIRE (in), 6 LEuWIRE (in), 7 NC, 8 VCC2 (power), 9 NC, 10 NC, 11 GOE (in), 12 TEST (out), 13 VCC3 (power), 14 CLKOUT0 (out), 15 ~{CLKOUT0} (out), 16 VCC4 (power), 17 CLKOUT1 (out), 18 ~{CLKOUT1} (out), 19 VCC5 (power), 20 CLKOUT2 (out), 21 ~{CLKOUT2} (out), 22 VCC6 (power), 23 CLKOUT3 (out), 24 ~{CLKOUT3} (out), 25 GND (power), 26 VCC7 (power), 27 ~{SYNC} (in), 28 CLKIN0 (in), 29 ~{CLKIN0} (in), 30 VCC8 (power), 31 VCC9 (power), 32 NC, 33 VCC10 (power), 34 CLKIN1 (in), 35 ~{CLKIN1} (in), 36 BIAS (in), 37 VCC11 (power), 38 CLKOUT4 (out), 39 ~{CLKOUT4} (out), 40 VCC12 (power), 41 CLKOUT5 (out), 42 ~{CLKOUT5} (out), 43 VCC13 (power), 44 CLKOUT6 (out), 45 ~{CLKOUT6} (out), 46 VCC14 (power), 47 CLKOUT7 (out), 48 ~{CLKOUT7} (out), 49 DAP (power)

## LMK01000ISQX/NOPB
designator U?
1.6 GHz High Performance Clock Buffer, Divider, and Distributor, 48-pin LLP, Pb-Free; PartNumber: LMK01000ISQX/NOPB; Manufacturer: National Semiconductor; PackageTopMarking: NS*UZXYTTE#*K01000 I; PowerWise: N; CompType: Interface IC; Published: 1-Mar-2010; DatasheetVersion: Jul-2009; PackageVersion: revB, May-2009; PackageReference: SQA48A; Publisher: Altium Limited; PackageDescription: LLP, Plastic, Quad, 7 x 7 x 0.8mm Body, 48 Lead, 0.5mm Pitch, No Pullback; Supplier 1: Digi-Key; Supplier Part Number 1: LMK01000ISQX-ND; RoHS: Y; PinCount: 48; Code_JEDEC: MO-220-WKKD-2; ComponentLink1Description: LMK01000 Datasheet; ComponentLink1URL: http://www.national.com/ds/LM/LMK01000.pdf; ComponentLink2Description: LMK01000 Web Page; ComponentLink2URL: http://www.national.com/pf/LM/LMK01000.html; ComponentLink3Description: SQA48A Package Page; ComponentLink3URL: http://www.national.com/packaging/folders/sqa48a.html
footprint SQA48A (QFN, 48-Leads, Body 7x7mm, Pitch 0.5mm, NSC Recommended)
pins: 1 GND (power), 2 NC, 3 VCC1 (power), 4 CLKuWIRE (in), 5 DATAuWIRE (in), 6 LEuWIRE (in), 7 NC, 8 VCC2 (power), 9 NC, 10 NC, 11 GOE (in), 12 TEST (out), 13 VCC3 (power), 14 CLKOUT0 (out), 15 ~{CLKOUT0} (out), 16 VCC4 (power), 17 CLKOUT1 (out), 18 ~{CLKOUT1} (out), 19 VCC5 (power), 20 CLKOUT2 (out), 21 ~{CLKOUT2} (out), 22 VCC6 (power), 23 CLKOUT3 (out), 24 ~{CLKOUT3} (out), 25 GND (power), 26 VCC7 (power), 27 ~{SYNC} (in), 28 CLKIN0 (in), 29 ~{CLKIN0} (in), 30 VCC8 (power), 31 VCC9 (power), 32 NC, 33 VCC10 (power), 34 CLKIN1 (in), 35 ~{CLKIN1} (in), 36 BIAS (in), 37 VCC11 (power), 38 CLKOUT4 (out), 39 ~{CLKOUT4} (out), 40 VCC12 (power), 41 CLKOUT5 (out), 42 ~{CLKOUT5} (out), 43 VCC13 (power), 44 CLKOUT6 (out), 45 ~{CLKOUT6} (out), 46 VCC14 (power), 47 CLKOUT7 (out), 48 ~{CLKOUT7} (out), 49 DAP (power)

## LMK01010ISQ/NOPB
designator U?
1.6 GHz High Performance Clock Buffer, Divider, and Distributor, 48-pin LLP, Pb-Free; PartNumber: LMK01010ISQ/NOPB; Manufacturer: National Semiconductor; PackageTopMarking: NS*UZXYTTE#*K01010 I; PowerWise: N; CompType: Interface IC; Published: 1-Mar-2010; DatasheetVersion: Jul-2009; PackageVersion: revB, May-2009; PackageReference: SQA48A; Publisher: Altium Limited; PackageDescription: LLP, Plastic, Quad, 7 x 7 x 0.8mm Body, 48 Lead, 0.5mm Pitch, No Pullback; Supplier 1: Digi-Key; Supplier Part Number 1: LMK01010ISQ-ND; RoHS: Y; PinCount: 48; Code_JEDEC: MO-220-WKKD-2; ComponentLink1Description: LMK01010 Datasheet; ComponentLink1URL: http://www.national.com/ds/LM/LMK01010.pdf; ComponentLink2Description: LMK01010 Web Page; ComponentLink2URL: http://www.national.com/pf/LM/LMK01010.html; ComponentLink3Description: SQA48A Package Page; ComponentLink3URL: http://www.national.com/packaging/folders/sqa48a.html
footprint SQA48A (QFN, 48-Leads, Body 7x7mm, Pitch 0.5mm, NSC Recommended)
pins: 1 GND (power), 2 NC, 3 VCC1 (power), 4 CLKuWIRE (in), 5 DATAuWIRE (in), 6 LEuWIRE (in), 7 NC, 8 VCC2 (power), 9 NC, 10 NC, 11 GOE (in), 12 TEST (out), 13 VCC3 (power), 14 CLKOUT0 (out), 15 ~{CLKOUT0} (out), 16 VCC4 (power), 17 CLKOUT1 (out), 18 ~{CLKOUT1} (out), 19 VCC5 (power), 20 CLKOUT2 (out), 21 ~{CLKOUT2} (out), 22 VCC6 (power), 23 CLKOUT3 (out), 24 ~{CLKOUT3} (out), 25 GND (power), 26 VCC7 (power), 27 ~{SYNC} (in), 28 CLKIN0 (in), 29 ~{CLKIN0} (in), 30 VCC8 (power), 31 VCC9 (power), 32 NC, 33 VCC10 (power), 34 CLKIN1 (in), 35 ~{CLKIN1} (in), 36 BIAS (in), 37 VCC11 (power), 38 CLKOUT4 (out), 39 ~{CLKOUT4} (out), 40 VCC12 (power), 41 CLKOUT5 (out), 42 ~{CLKOUT5} (out), 43 VCC13 (power), 44 CLKOUT6 (out), 45 ~{CLKOUT6} (out), 46 VCC14 (power), 47 CLKOUT7 (out), 48 ~{CLKOUT7} (out), 49 DAP (power)

## LMK01010ISQE/NOPB
designator U?
1.6 GHz High Performance Clock Buffer, Divider, and Distributor, 48-pin LLP, Pb-Free; PartNumber: LMK01010ISQE/NOPB; Manufacturer: National Semiconductor; PackageTopMarking: NS*UZXYTTE#*K01010 I; PowerWise: N; CompType: Interface IC; Published: 1-Mar-2010; DatasheetVersion: Jul-2009; PackageVersion: revB, May-2009; PackageReference: SQA48A; Publisher: Altium Limited; PackageDescription: LLP, Plastic, Quad, 7 x 7 x 0.8mm Body, 48 Lead, 0.5mm Pitch, No Pullback; Supplier 1: Digi-Key; Supplier Part Number 1: LMK01010ISQETR-ND; Supplier 2: Digi-Key; Supplier Part Number 2: LMK01010ISQECT-ND; Supplier 3: Digi-Key; Supplier Part Number 3: LMK01010ISQEDKR-ND; Supplier 4: Farnell; Supplier Part Number 4: 1654234; RoHS: Y; PinCount: 48; Code_JEDEC: MO-220-WKKD-2; ComponentLink1Description: LMK01010 Datasheet; ComponentLink1URL: http://www.national.com/ds/LM/LMK01010.pdf; ComponentLink2Description: LMK01010 Web Page; ComponentLink2URL: http://www.national.com/pf/LM/LMK01010.html; ComponentLink3Description: SQA48A Package Page; ComponentLink3URL: http://www.national.com/packaging/folders/sqa48a.html
footprint SQA48A (QFN, 48-Leads, Body 7x7mm, Pitch 0.5mm, NSC Recommended)
pins: 1 GND (power), 2 NC, 3 VCC1 (power), 4 CLKuWIRE (in), 5 DATAuWIRE (in), 6 LEuWIRE (in), 7 NC, 8 VCC2 (power), 9 NC, 10 NC, 11 GOE (in), 12 TEST (out), 13 VCC3 (power), 14 CLKOUT0 (out), 15 ~{CLKOUT0} (out), 16 VCC4 (power), 17 CLKOUT1 (out), 18 ~{CLKOUT1} (out), 19 VCC5 (power), 20 CLKOUT2 (out), 21 ~{CLKOUT2} (out), 22 VCC6 (power), 23 CLKOUT3 (out), 24 ~{CLKOUT3} (out), 25 GND (power), 26 VCC7 (power), 27 ~{SYNC} (in), 28 CLKIN0 (in), 29 ~{CLKIN0} (in), 30 VCC8 (power), 31 VCC9 (power), 32 NC, 33 VCC10 (power), 34 CLKIN1 (in), 35 ~{CLKIN1} (in), 36 BIAS (in), 37 VCC11 (power), 38 CLKOUT4 (out), 39 ~{CLKOUT4} (out), 40 VCC12 (power), 41 CLKOUT5 (out), 42 ~{CLKOUT5} (out), 43 VCC13 (power), 44 CLKOUT6 (out), 45 ~{CLKOUT6} (out), 46 VCC14 (power), 47 CLKOUT7 (out), 48 ~{CLKOUT7} (out), 49 DAP (power)

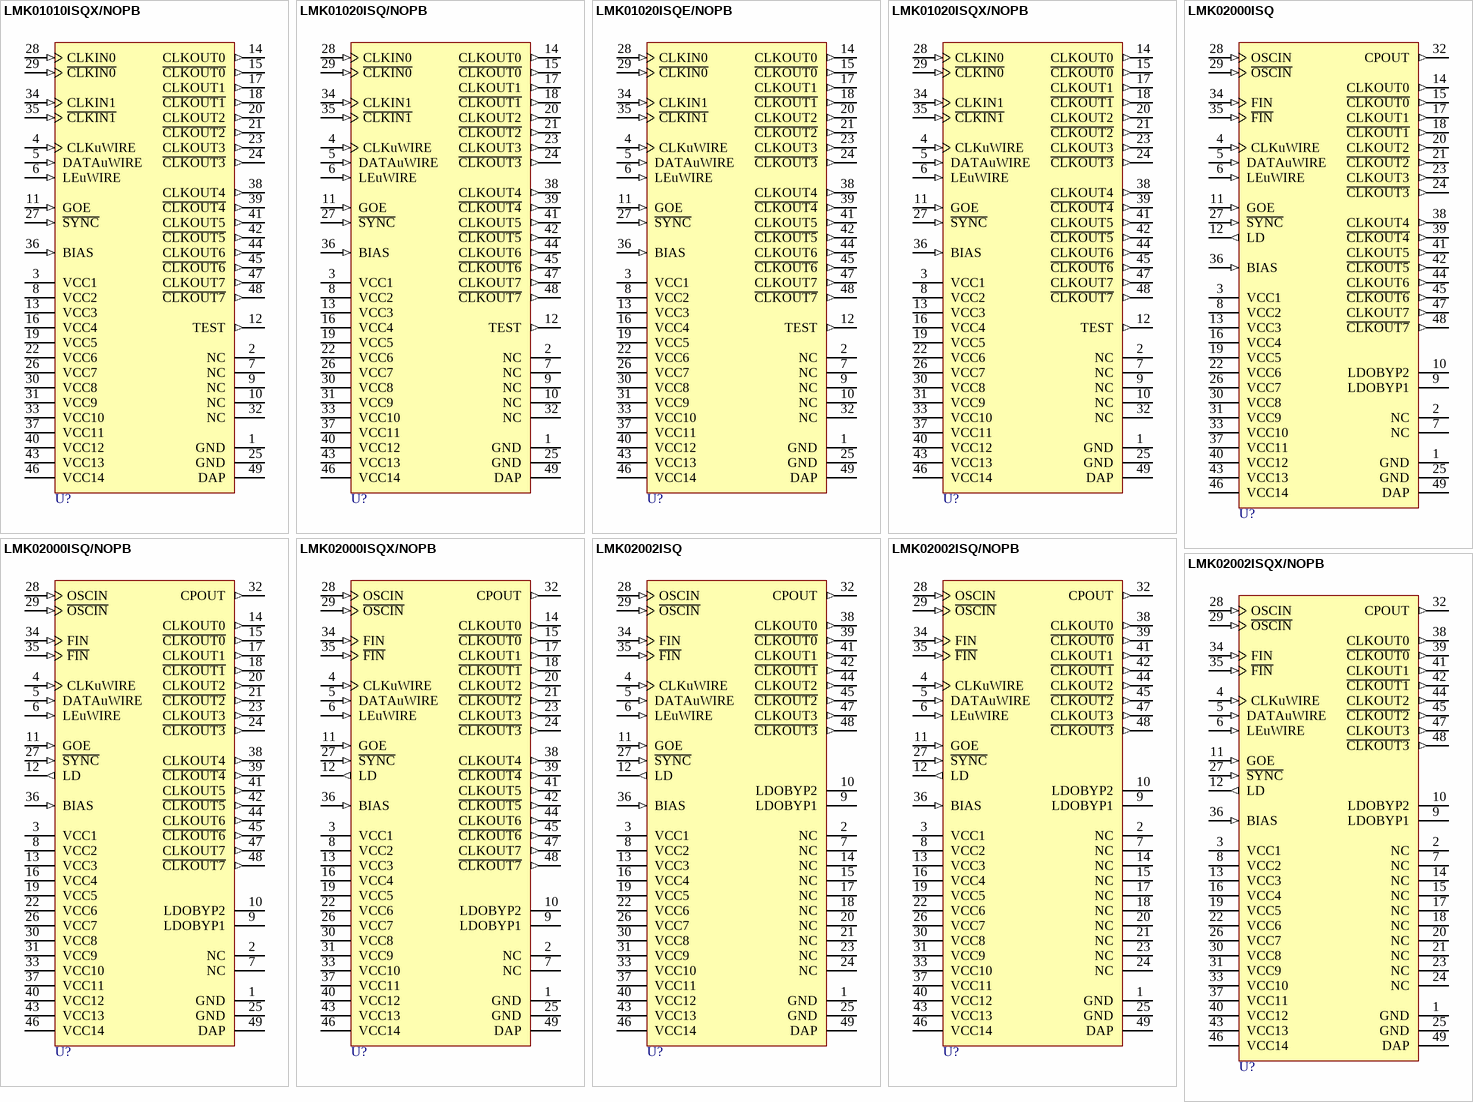
[diagram p85: symbols LMK01010ISQX/NOPB to LMK02002ISQX/NOPB]

## LMK01010ISQX/NOPB
designator U?
1.6 GHz High Performance Clock Buffer, Divider, and Distributor, 48-pin LLP, Pb-Free; PartNumber: LMK01010ISQX/NOPB; Manufacturer: National Semiconductor; PackageTopMarking: NS*UZXYTTE#*K01010 I; PowerWise: N; CompType: Interface IC; Published: 1-Mar-2010; DatasheetVersion: Jul-2009; PackageVersion: revB, May-2009; PackageReference: SQA48A; Publisher: Altium Limited; PackageDescription: LLP, Plastic, Quad, 7 x 7 x 0.8mm Body, 48 Lead, 0.5mm Pitch, No Pullback; Supplier 1: Digi-Key; Supplier Part Number 1: LMK01010ISQX-ND; RoHS: Y; PinCount: 48; Code_JEDEC: MO-220-WKKD-2; ComponentLink1Description: LMK01010 Datasheet; ComponentLink1URL: http://www.national.com/ds/LM/LMK01010.pdf; ComponentLink2Description: LMK01010 Web Page; ComponentLink2URL: http://www.national.com/pf/LM/LMK01010.html; ComponentLink3Description: SQA48A Package Page; ComponentLink3URL: http://www.national.com/packaging/folders/sqa48a.html
footprint SQA48A (QFN, 48-Leads, Body 7x7mm, Pitch 0.5mm, NSC Recommended)
pins: 1 GND (power), 2 NC, 3 VCC1 (power), 4 CLKuWIRE (in), 5 DATAuWIRE (in), 6 LEuWIRE (in), 7 NC, 8 VCC2 (power), 9 NC, 10 NC, 11 GOE (in), 12 TEST (out), 13 VCC3 (power), 14 CLKOUT0 (out), 15 ~{CLKOUT0} (out), 16 VCC4 (power), 17 CLKOUT1 (out), 18 ~{CLKOUT1} (out), 19 VCC5 (power), 20 CLKOUT2 (out), 21 ~{CLKOUT2} (out), 22 VCC6 (power), 23 CLKOUT3 (out), 24 ~{CLKOUT3} (out), 25 GND (power), 26 VCC7 (power), 27 ~{SYNC} (in), 28 CLKIN0 (in), 29 ~{CLKIN0} (in), 30 VCC8 (power), 31 VCC9 (power), 32 NC, 33 VCC10 (power), 34 CLKIN1 (in), 35 ~{CLKIN1} (in), 36 BIAS (in), 37 VCC11 (power), 38 CLKOUT4 (out), 39 ~{CLKOUT4} (out), 40 VCC12 (power), 41 CLKOUT5 (out), 42 ~{CLKOUT5} (out), 43 VCC13 (power), 44 CLKOUT6 (out), 45 ~{CLKOUT6} (out), 46 VCC14 (power), 47 CLKOUT7 (out), 48 ~{CLKOUT7} (out), 49 DAP (power)

## LMK01020ISQ/NOPB
designator U?
1.6 GHz High Performance Clock Buffer, Divider, and Distributor, 48-pin LLP, Pb-Free; PartNumber: LMK01020ISQ/NOPB; Manufacturer: National Semiconductor; PackageTopMarking: NS*UZXYTTE#*K01020 I; PowerWise: N; CompType: Interface IC; Published: 1-Mar-2010; DatasheetVersion: Jul-2009; PackageVersion: revB, May-2009; PackageReference: SQA48A; Publisher: Altium Limited; PackageDescription: LLP, Plastic, Quad, 7 x 7 x 0.8mm Body, 48 Lead, 0.5mm Pitch, No Pullback; Supplier 1: Digi-Key; Supplier Part Number 1: LMK01020ISQ-ND; RoHS: Y; PinCount: 48; Code_JEDEC: MO-220-WKKD-2; ComponentLink1Description: LMK01020 Datasheet; ComponentLink1URL: http://www.national.com/ds/LM/LMK01020.pdf; ComponentLink2Description: LMK01020 Web Page; ComponentLink2URL: http://www.national.com/pf/LM/LMK01020.html; ComponentLink3Description: SQA48A Package Page; ComponentLink3URL: http://www.national.com/packaging/folders/sqa48a.html
footprint SQA48A (QFN, 48-Leads, Body 7x7mm, Pitch 0.5mm, NSC Recommended)
pins: 1 GND (power), 2 NC, 3 VCC1 (power), 4 CLKuWIRE (in), 5 DATAuWIRE (in), 6 LEuWIRE (in), 7 NC, 8 VCC2 (power), 9 NC, 10 NC, 11 GOE (in), 12 TEST (out), 13 VCC3 (power), 14 CLKOUT0 (out), 15 ~{CLKOUT0} (out), 16 VCC4 (power), 17 CLKOUT1 (out), 18 ~{CLKOUT1} (out), 19 VCC5 (power), 20 CLKOUT2 (out), 21 ~{CLKOUT2} (out), 22 VCC6 (power), 23 CLKOUT3 (out), 24 ~{CLKOUT3} (out), 25 GND (power), 26 VCC7 (power), 27 ~{SYNC} (in), 28 CLKIN0 (in), 29 ~{CLKIN0} (in), 30 VCC8 (power), 31 VCC9 (power), 32 NC, 33 VCC10 (power), 34 CLKIN1 (in), 35 ~{CLKIN1} (in), 36 BIAS (in), 37 VCC11 (power), 38 CLKOUT4 (out), 39 ~{CLKOUT4} (out), 40 VCC12 (power), 41 CLKOUT5 (out), 42 ~{CLKOUT5} (out), 43 VCC13 (power), 44 CLKOUT6 (out), 45 ~{CLKOUT6} (out), 46 VCC14 (power), 47 CLKOUT7 (out), 48 ~{CLKOUT7} (out), 49 DAP (power)

## LMK01020ISQE/NOPB
designator U?
1.6 GHz High Performance Clock Buffer, Divider, and Distributor, 48-pin LLP, Pb-Free; PartNumber: LMK01020ISQE/NOPB; Manufacturer: National Semiconductor; PackageTopMarking: NS*UZXYTTE#*K01020 I; PowerWise: N; CompType: Interface IC; Published: 1-Mar-2010; DatasheetVersion: Jul-2009; PackageVersion: revB, May-2009; PackageReference: SQA48A; Publisher: Altium Limited; PackageDescription: LLP, Plastic, Quad, 7 x 7 x 0.8mm Body, 48 Lead, 0.5mm Pitch, No Pullback; Supplier 1: Digi-Key; Supplier Part Number 1: LMK01020ISQETR-ND; Supplier 2: Digi-Key; Supplier Part Number 2: LMK01020ISQECT-ND; Supplier 3: Digi-Key; Supplier Part Number 3: LMK01020ISQEDKR-ND; Supplier 4: Farnell; Supplier Part Number 4: 1654235; RoHS: Y; PinCount: 48; Code_JEDEC: MO-220-WKKD-2; ComponentLink1Description: LMK01020 Datasheet; ComponentLink1URL: http://www.national.com/ds/LM/LMK01020.pdf; ComponentLink2Description: LMK01020 Web Page; ComponentLink2URL: http://www.national.com/pf/LM/LMK01020.html; ComponentLink3Description: SQA48A Package Page; ComponentLink3URL: http://www.national.com/packaging/folders/sqa48a.html
footprint SQA48A (QFN, 48-Leads, Body 7x7mm, Pitch 0.5mm, NSC Recommended)
pins: 1 GND (power), 2 NC, 3 VCC1 (power), 4 CLKuWIRE (in), 5 DATAuWIRE (in), 6 LEuWIRE (in), 7 NC, 8 VCC2 (power), 9 NC, 10 NC, 11 GOE (in), 12 TEST (out), 13 VCC3 (power), 14 CLKOUT0 (out), 15 ~{CLKOUT0} (out), 16 VCC4 (power), 17 CLKOUT1 (out), 18 ~{CLKOUT1} (out), 19 VCC5 (power), 20 CLKOUT2 (out), 21 ~{CLKOUT2} (out), 22 VCC6 (power), 23 CLKOUT3 (out), 24 ~{CLKOUT3} (out), 25 GND (power), 26 VCC7 (power), 27 ~{SYNC} (in), 28 CLKIN0 (in), 29 ~{CLKIN0} (in), 30 VCC8 (power), 31 VCC9 (power), 32 NC, 33 VCC10 (power), 34 CLKIN1 (in), 35 ~{CLKIN1} (in), 36 BIAS (in), 37 VCC11 (power), 38 CLKOUT4 (out), 39 ~{CLKOUT4} (out), 40 VCC12 (power), 41 CLKOUT5 (out), 42 ~{CLKOUT5} (out), 43 VCC13 (power), 44 CLKOUT6 (out), 45 ~{CLKOUT6} (out), 46 VCC14 (power), 47 CLKOUT7 (out), 48 ~{CLKOUT7} (out), 49 DAP (power)

## LMK01020ISQX/NOPB
designator U?
1.6 GHz High Performance Clock Buffer, Divider, and Distributor, 48-pin LLP, Pb-Free; PartNumber: LMK01020ISQX/NOPB; Manufacturer: National Semiconductor; PackageTopMarking: NS*UZXYTTE#*K01020 I; PowerWise: N; CompType: Interface IC; Published: 1-Mar-2010; DatasheetVersion: Jul-2009; PackageVersion: revB, May-2009; PackageReference: SQA48A; Publisher: Altium Limited; PackageDescription: LLP, Plastic, Quad, 7 x 7 x 0.8mm Body, 48 Lead, 0.5mm Pitch, No Pullback; Supplier 1: Digi-Key; Supplier Part Number 1: LMK01020ISQX-ND; RoHS: Y; PinCount: 48; Code_JEDEC: MO-220-WKKD-2; ComponentLink1Description: LMK01020 Datasheet; ComponentLink1URL: http://www.national.com/ds/LM/LMK01020.pdf; ComponentLink2Description: LMK01020 Web Page; ComponentLink2URL: http://www.national.com/pf/LM/LMK01020.html; ComponentLink3Description: SQA48A Package Page; ComponentLink3URL: http://www.national.com/packaging/folders/sqa48a.html
footprint SQA48A (QFN, 48-Leads, Body 7x7mm, Pitch 0.5mm, NSC Recommended)
pins: 1 GND (power), 2 NC, 3 VCC1 (power), 4 CLKuWIRE (in), 5 DATAuWIRE (in), 6 LEuWIRE (in), 7 NC, 8 VCC2 (power), 9 NC, 10 NC, 11 GOE (in), 12 TEST (out), 13 VCC3 (power), 14 CLKOUT0 (out), 15 ~{CLKOUT0} (out), 16 VCC4 (power), 17 CLKOUT1 (out), 18 ~{CLKOUT1} (out), 19 VCC5 (power), 20 CLKOUT2 (out), 21 ~{CLKOUT2} (out), 22 VCC6 (power), 23 CLKOUT3 (out), 24 ~{CLKOUT3} (out), 25 GND (power), 26 VCC7 (power), 27 ~{SYNC} (in), 28 CLKIN0 (in), 29 ~{CLKIN0} (in), 30 VCC8 (power), 31 VCC9 (power), 32 NC, 33 VCC10 (power), 34 CLKIN1 (in), 35 ~{CLKIN1} (in), 36 BIAS (in), 37 VCC11 (power), 38 CLKOUT4 (out), 39 ~{CLKOUT4} (out), 40 VCC12 (power), 41 CLKOUT5 (out), 42 ~{CLKOUT5} (out), 43 VCC13 (power), 44 CLKOUT6 (out), 45 ~{CLKOUT6} (out), 46 VCC14 (power), 47 CLKOUT7 (out), 48 ~{CLKOUT7} (out), 49 DAP (power)

## LMK02000ISQ
designator U?
Precision Clock Distributor with Integrated PLL, 48-pin LLP; PartNumber: LMK02000ISQ; Manufacturer: National Semiconductor; PackageTopMarking: NS*UZXYTT*K02000 I; PowerWise: Y; CompType: Interface IC; Published: 4-Dec-2008; DatasheetVersion: Sep-2007; PackageVersion: revB, May-2009; PackageReference: SQA48A; Publisher: Altium Limited; PackageDescription: LLP, Plastic, Quad, 7 x 7 x 0.8mm Body, 48 Lead, 0.5mm Pitch, No Pullback; Supplier 1: Farnell; Supplier Part Number 1: 1359429; RoHS: Y; PinCount: 48; Code_JEDEC: MO-220-WKKD-2; ComponentLink1Description: LMK02000 Datasheet; ComponentLink1URL: http://www.national.com/ds/LM/LMK02000.pdf; ComponentLink2Description: LMK02000 Web Page; ComponentLink2URL: http://www.national.com/pf/LM/LMK02000.html; ComponentLink3Description: SQA48A Package Page; ComponentLink3URL: http://www.national.com/packaging/folders/sqa48a.html
footprint SQA48A (QFN, 48-Leads, Body 7x7mm, Pitch 0.5mm, NSC Recommended)
pins: 1 GND (power), 2 NC, 3 VCC1 (power), 4 CLKuWIRE (in), 5 DATAuWIRE (in), 6 LEuWIRE (in), 7 NC, 8 VCC2 (power), 9 LDOBYP1, 10 LDOBYP2, 11 GOE (in), 12 LD (out), 13 VCC3 (power), 14 CLKOUT0 (out), 15 ~{CLKOUT0} (out), 16 VCC4 (power), 17 CLKOUT1 (out), 18 ~{CLKOUT1} (out), 19 VCC5 (power), 20 CLKOUT2 (out), 21 ~{CLKOUT2} (out), 22 VCC6 (power), 23 CLKOUT3 (out), 24 ~{CLKOUT3} (out), 25 GND (power), 26 VCC7 (power), 27 ~{SYNC} (in), 28 OSCIN (in), 29 ~{OSCIN} (in), 30 VCC8 (power), 31 VCC9 (power), 32 CPOUT (out), 33 VCC10 (power), 34 FIN (in), 35 ~{FIN} (in), 36 BIAS (in), 37 VCC11 (power), 38 CLKOUT4 (out), 39 ~{CLKOUT4} (out), 40 VCC12 (power), 41 CLKOUT5 (out), 42 ~{CLKOUT5} (out), 43 VCC13 (power), 44 CLKOUT6 (out), 45 ~{CLKOUT6} (out), 46 VCC14 (power), 47 CLKOUT7 (out), 48 ~{CLKOUT7} (out), 49 DAP (power)